# Altium footprint library MyLib.PcbLib: 92 footprints (part 5 of 6)
Each footprint in its own frame and in the unit in brackets; x right, y up, seen from the top. Pads: shape width x height; smd on the part's side, far side on the other; paste and mask are expansions set on the pad; w line width, h text height; cw(c..) or ccw(c..) is an arc to the next point about the centre after c.
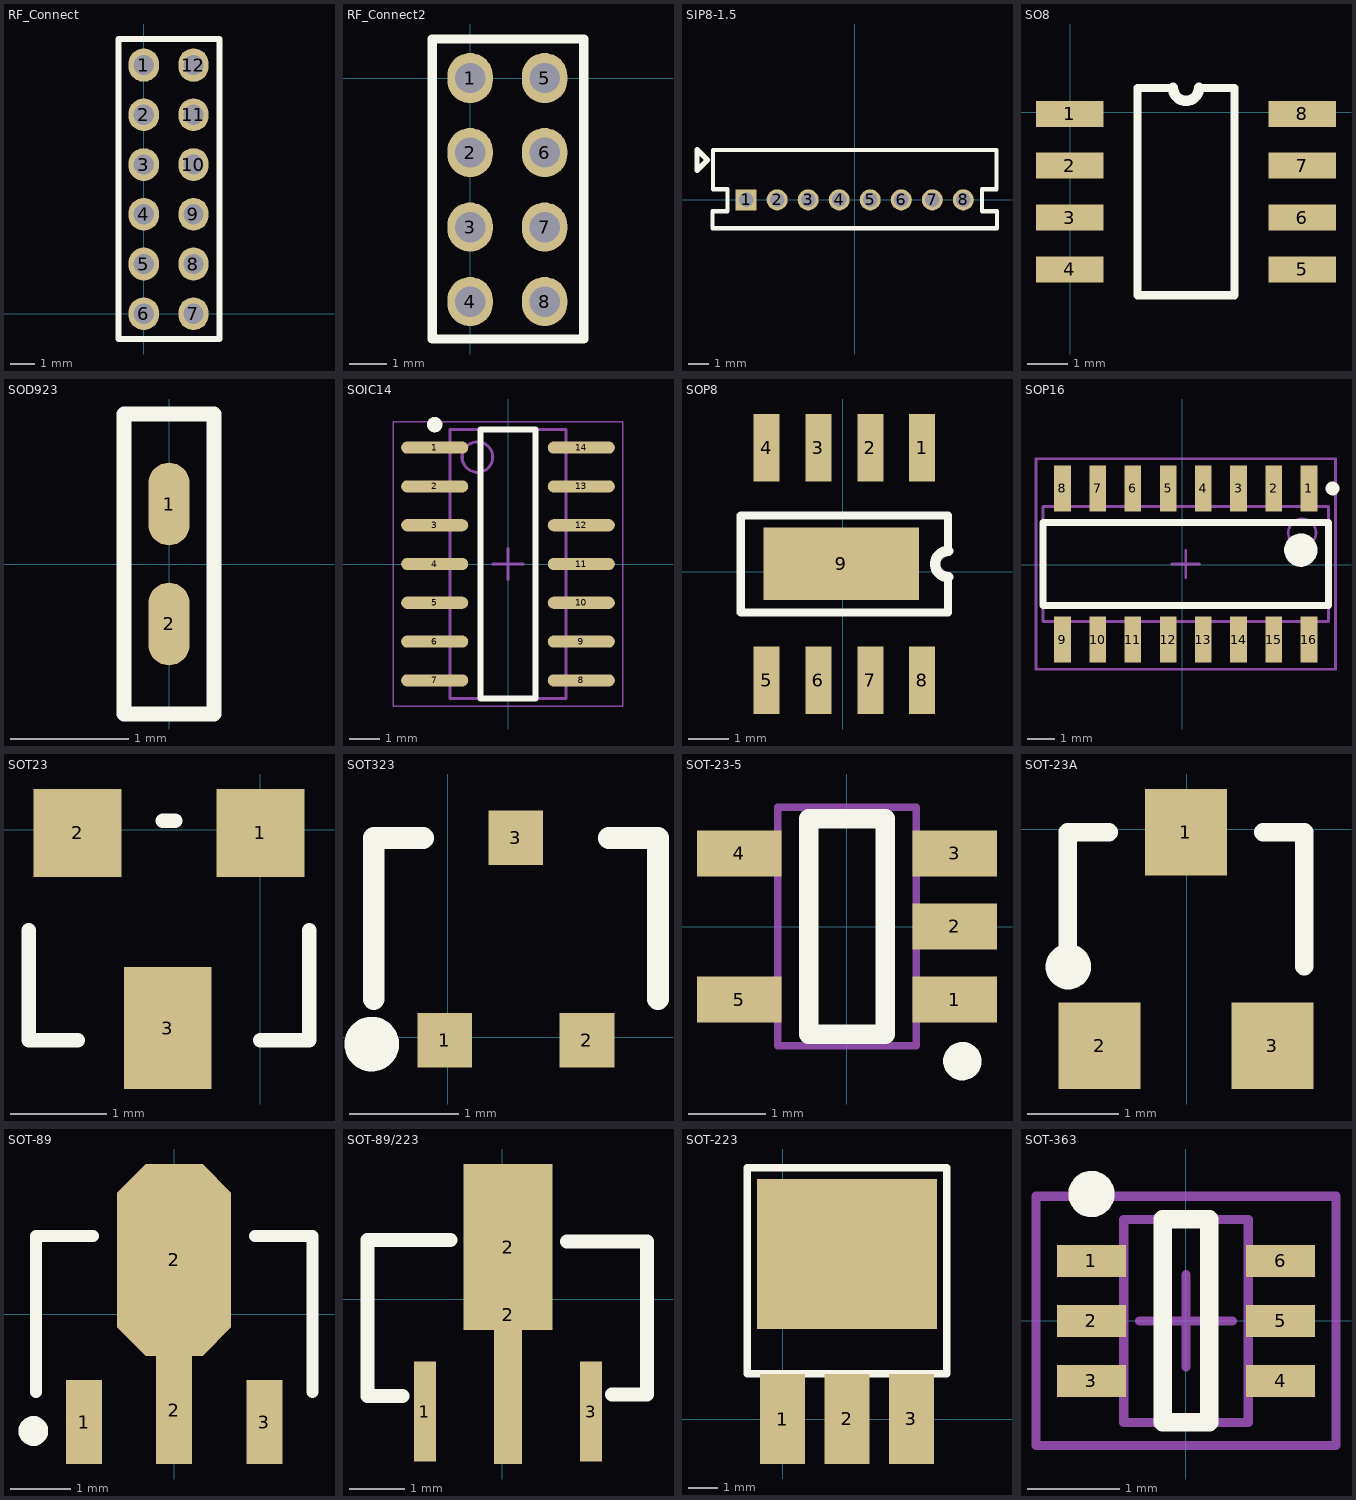
[diagram p4: the footprints below, top view; thin cyan lines are the x and y axes]

## RF_Connect [mil]
pads (12):
  oval 48x53 hole 32: 1(0,393.7) 12(78.74,393.7)
  oval 48x52 hole 32: 2(0,314.96) 3(0,236.22) 4(0,157.48) 5(0,78.74) 6(0,0) 7(78.74,0) 8(78.74,78.74) 9(78.74,157.48) 10(78.74,236.22) 11(78.74,314.96)
Top Overlay:
  lines w10: -40,-40 -40,435 120,435 120,-40 -40,-40

## RF_Connect2 [mil]
pads (8):
  oval 48x53 hole 32: 1(0,0) 5(78.74,0)
  oval 48x52 hole 32: 2(0,-78.74) 3(0,-157.48) 4(0,-236.22) 6(78.74,-78.74) 7(78.74,-157.48) 8(78.74,-236.22)
Top Overlay:
  lines w10: -40,-275.7 -40,41.3 120,41.3 120,-275.7 -40,-275.7

## SIP8-1.5 [mil]
pads (8):
  rect 40x40 hole 28: 1(-206.69,0)
  round 40 hole 28: 2(-147.64,0) 3(-88.58,0) 4(-29.53,0) 5(29.53,0) 6(88.58,0) 7(147.64,0) 8(206.69,0)
Top Overlay:
  lines w8: -270.84,-54.23 270.84,-54.23 270.84,-21.93 242.34,-21.93 242.34,20.07 269.84,20.07 269.84,94.58 -269.84,94.58 -269.84,20.07 -242.34,20.07 -242.34,-21.93 -270.84,-21.93 -270.84,-54.23
  lines w10: -300.2,56.1 -300.2,95.47 -280.51,75.79 -300.2,56.1

## SO8 [mm]
pads (8):
  rect 1.651x0.635 smd: 1(-0.011,-0.04) 2(-0.011,-1.31) 3(-0.011,-2.58) 4(-0.011,-3.85) 5(5.689,-3.85) 6(5.689,-2.58) 7(5.689,-1.31) 8(5.689,-0.04)
Top Overlay:
  lines w0.2: 2.521,0.595 1.649,0.595 1.649,-4.485 4.028,-4.485 4.028,0.595 3.156,0.595
  lines w0.254: 2.521,0.595 ccw(c2.839,0.595) 3.156,0.595

## SOD923 [mm]
pads (2):
  oval 0.35x0.7 smd: 1(0,0.508) 2(0,-0.508)
Top Overlay:
  lines w0.127: 0.381,0.127 0.381,1.27 ; 0.381,1.27 -0.381,1.27 -0.381,-1.27 0.381,-1.27 0.381,1.27

## SOIC14 [mm] "SOIC, 14-Leads, Body 8.65x3.90mm, Pitch 1.27mm, IPC Medium Density"
height 1.75
pads (14):
  oval 2.2x0.4 smd: 1(-2.4,3.81) 2(-2.4,2.54) 3(-2.4,1.27) 4(-2.4,0) 5(-2.4,-1.27) 6(-2.4,-2.54) 7(-2.4,-3.81) 8(2.4,-3.81) 9(2.4,-2.54) 10(2.4,-1.27) 11(2.4,0) 12(2.4,1.27) 13(2.4,2.54) 14(2.4,3.81)
Top Overlay:
  circle w0.25: c-2.4,4.56 r0.125
  lines w0.2: -0.9,-4.4 0.9,-4.4 0.9,4.4 -0.9,4.4 -0.9,-4.4
Mechanical 13:
  circle w0.1: c-1,3.5 r0.5
  lines w0.1: -1.9,-4.4 1.9,-4.4 1.9,4.4 -1.9,4.4 -1.9,-4.4
Mechanical 15:
  lines w0.05: -3.75,-4.65 3.75,-4.65 3.75,4.65 -3.75,4.65 -3.75,-4.65
  lines w0.1: -0.5,0 0.5,0 ; 0,-0.5 0,0.5
3D body: height 1.75, standoff 0.2, extent -1.9,-4.4 1.9,4.4

## SOP8 [mil]
pads (9):
  rect 25x65 smd: 1(76.43,119.44) 2(26.43,119.44) 3(-23.57,119.44) 4(-73.57,119.44) 5(-73.57,-104.97) 6(-23.57,-104.97) 7(26.43,-104.97) 8(76.43,-104.97)
  rect 150x70 smd: 9(-1.57,7.44)
Top Overlay:
  lines w7.87: 101.43,-5.26 101.43,-39.6 -98.57,-39.6 -98.57,54.07 101.43,54.07 101.43,19.74
  lines w10: 101.43,-5.26 cw(c101.43,7.24) 101.43,19.74

## SOP16 [mm]
pads (16):
  rect 0.6x1.65 smd: 1(4.563,2.744) 2(3.293,2.744) 3(2.023,2.744) 4(0.753,2.744) 5(-0.517,2.744) 6(-1.787,2.744) 7(-3.057,2.744) 8(-4.327,2.744) 9(-4.327,-2.706) 10(-3.057,-2.706) 11(-1.787,-2.706) 12(-0.517,-2.706) 13(0.753,-2.706) 14(2.023,-2.706) 15(3.293,-2.706) 16(4.563,-2.706)
Top Overlay:
  circle w0.25: c5.413,2.744 r0.125
  circle w0.6: c4.268,0.519 r0.3
  lines w0.254: -5.032,-1.481 5.268,-1.481 5.268,1.519 -5.032,1.519 -5.032,-1.481
Mechanical 13:
  circle w0.1: c4.318,1.144 r0.5
  lines w0.1: -5.032,-2.056 5.268,-2.056 5.268,2.094 -5.032,2.094 -5.032,-2.056
Mechanical 15:
  lines w0.1: -0.382,0.019 0.618,0.019 ; 0.118,-0.481 0.118,0.519 ; -5.282,-3.781 5.518,-3.781 5.518,3.819 -5.282,3.819 -5.282,-3.781
3D body: height 1.95, standoff 0.15, extent -5.032,-2.056 5.268,2.094

## SOT23 [mil]
pads (3):
  rect 36x36 smd: 1(0.13,-1.31) 2(-74.87,-1.31)
  rect 36x50 smd: 3(-37.87,-81.31)
Top Overlay:
  lines w6: -94.87,-41.31 -94.87,-86.31 -74.87,-86.31 ; -39.87,3.69 -34.87,3.69 ; 0.13,-86.31 20.13,-86.31 20.13,-41.31

## SOT323 [mm]
pads (3):
  rect 0.5x0.5 smd: 1(-0.025,-0.025) 2(1.275,-0.025) 3(0.625,1.825)
Top Overlay:
  circle w0.25: c-0.694,-0.062 r0.125
  lines w0.2: -0.675,0.35 -0.675,1.825 -0.225,1.825 ; 1.475,1.825 1.925,1.825 1.925,0.35
3D body: height 0.5, standoff 0, extent 0.955,-0.265 1.463,0.294
3D body: height 0.5, standoff 0, extent -0.239,-0.265 0.269,0.294
3D body: height 0.5, standoff 0, extent 0.406,1.549 0.914,2.108
3D body: height 1.15, standoff 0, extent -0.671,0.428 1.92,1.742

## SOT-23-5 [mm]
pads (5):
  rect 1.1x0.6 smd: 1(1.4,-0.95) 2(1.4,0) 3(1.4,0.95) 4(-1.4,0.95) 5(-1.4,-0.95)
Top Overlay:
  circle w0.25: c1.5,-1.75 r0.125
  lines w0.254: -0.5,-1.4 -0.5,1.4 0.5,1.4 0.5,-1.4 -0.5,-1.4
Mechanical 13:
  lines w0.1: -0.9,-1.55 0.9,-1.55 0.9,1.55 -0.9,1.55 -0.9,-1.55

## SOT-23A [mm]
pads (3):
  rect 0.9x0.95 smd: 1(-0.011,-0.033) 2(-0.961,-2.383) 3(0.939,-2.383)
Top Overlay:
  circle w0.25: c-1.304,-1.513 r0.125
  lines w0.2: -1.311,-1.508 -1.311,-0.033 -0.861,-0.033 ; 0.839,-0.033 1.289,-0.033 1.289,-1.508
3D body: height 0.5, standoff 0, extent 0.7,-2.478 1.208,-1.919
3D body: height 0.5, standoff 0, extent -1.23,-2.478 -0.722,-1.919
3D body: height 0.5, standoff 0, extent -0.265,-0.522 0.243,0.037
3D body: height 1.15, standoff 0, extent -1.56,-1.919 1.538,-0.522

## SOT-89 [mm]
pads (4):
  rect 0.6x1.4 smd: 1(-1.5,-1.8) 3(1.5,-1.8)
  rect 0.6x1.8 smd: 2(0,-1.6)
  oct 1.9x3.2 smd: 2(0,0.9)
Top Overlay:
  circle w0.25: c-2.35,-1.95 r0.125
  lines w0.2: -2.3,-1.3 -2.3,1.3 -1.35,1.3 ; 1.35,1.3 2.3,1.3 2.3,-1.3
Mechanical 15:
  lines w0.1: -0.5,0 0.5,0 ; 0,-0.5 0,0.5

## SOT-89/223 [mm]
pads (4):
  rect 0.4x1.8 smd: 1(-1.397,-2.032) 3(1.603,-2.032)
  rect 0.5x5.4 smd: 2(0.103,-0.279)
  rect 1.6x3 smd: 2(0.103,0.94)
Top Overlay:
  lines w0.254: -1.803,-1.753 -2.438,-1.753 -2.438,1.067 -0.94,1.067 ; 1.168,1.041 2.616,1.041 2.616,-1.727 1.981,-1.727

## SOT-223 [mil]
pads (4):
  rect 60x120 smd: 1(0,0) 2(86,0) 3(172,0)
  rect 240x200 smd: ""(86,220)
Top Overlay:
  lines w10: -47,60 -47,335 219,335 219,60 -47,60

## SOT-363 [mm] "SOT23, 6-Leads, Body 2.2x2.4mm (max), Pitch 0.65mm, IPC Medium Density"
height 1.1
pads (6):
  rect 0.75x0.35 smd: 1(-1.025,0.65) 2(-1.025,0) 3(-1.025,-0.65) 4(1.025,-0.65) 5(1.025,0) 6(1.025,0.65)
Top Overlay:
  circle w0.25: c-1.025,1.375 r0.125
  lines w0.2: -0.25,-1.1 -0.25,1.1 0.25,1.1 0.25,-1.1 -0.25,-1.1
Mechanical 13:
  lines w0.1: -0.675,-1.1 0.675,-1.1 0.675,1.1 -0.675,1.1 -0.675,-1.1
Mechanical 15:
  lines w0.1: -0.5,0 0.5,0 ; 0,-0.5 0,0.5 ; -1.625,-1.35 1.625,-1.35 1.625,1.35 -1.625,1.35 -1.625,-1.35
3D body: height 1.1, standoff 0.1, extent -0.675,-1.1 0.675,1.1